# Altium footprint library CHIP_2818_VISHAY.PcbLib: 1 footprints
Each footprint in its own frame and in the unit in brackets; x right, y up, seen from the top. Pads: shape width x height; smd on the part's side, far side on the other; paste and mask are expansions set on the pad; w line width, h text height; cw(c..) or ccw(c..) is an arc to the next point about the centre after c.
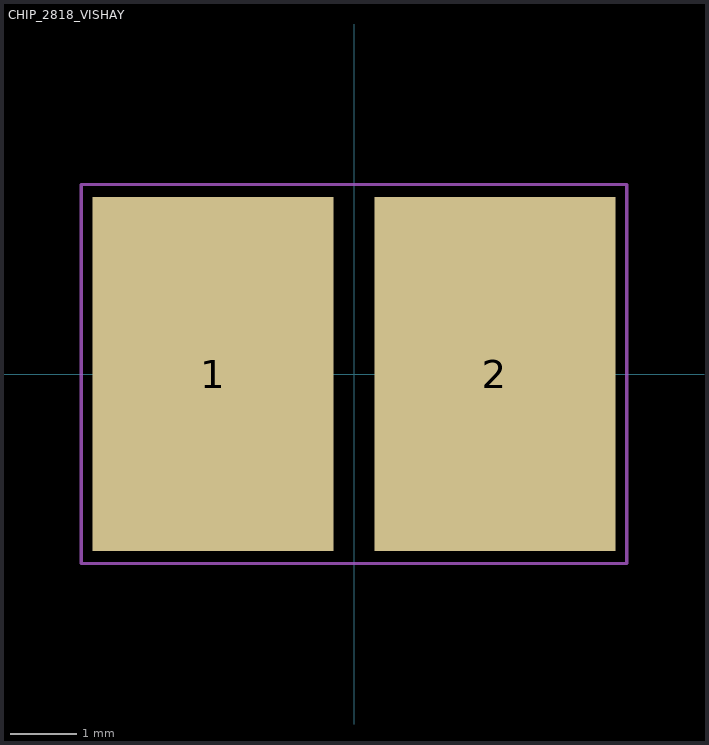
[diagram p0: the footprint, top view; thin cyan lines are the x and y axes]

## CHIP_2818_VISHAY [mm] "2818 Power resistor"
pads (2):
  rect 3.63x5.33 smd: 1(-2.12,0) 2(2.12,0)
Mechanical 15:
  lines w0.05: -4.1,-2.85 -4.1,2.85 4.1,2.85 4.1,-2.85 -4.1,-2.85
3D body: height 1.5, standoff 0, extent -3.55,-2.3 3.55,2.3